# Altium integrated library RT9193-33GB.IntLib: 1 symbol
Pins are listed as number, name and electrical type; pins without a type are passive.

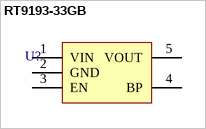
[diagram p0: symbol RT9193-33GB]

## RT9193-33GB
designator U?  (value not drawn)
Linear Voltage Regulator IC Positive Fixed 1 Output 300mA SOT-23-5
footprint SOT-23-5
footprint SOT-23-5
pins: 1 VIN (power), 2 GND (power), 3 EN, 4 BP, 5 VOUT